# Altium schematic symbol library 1812L_fuse.SchLib: 1 symbol
Pins are listed as number, name and electrical type; pins without a type are passive.

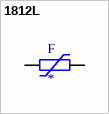
[diagram p0: symbol 1812L]

## 1812L
designator F
Polymeric PTC Resettable Fuse 15V 500mA Ih Surface Mount 1812 _4532 Metric_, Concave; MF: Littelfuse Inc.; MP: 1812L; Package: 1812 Littelfuse Inc.; Value: *; Availability: Unavailable; Price: None; SnapEDA_Link: https://www.snapeda.com/parts/1812L/Littelfuse%20Inc./view-part/583884/?ref=snap
footprint 1812L
pins: P$1 1, P$2 2